# EAGLE library part PLD_ATF16V8B (library 07-Retrocomputing)
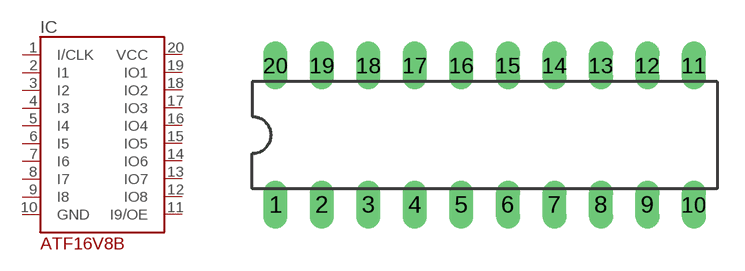
[diagram p5: symbol with the pads of DIL20; footprint DIL20]

Designator prefix IC

## PLD_ATF16V8B  [DIL20]
1  I/CLK
2  I1
3  I2
4  I3
5  I4
6  I5
7  I6
8  I7
9  I8
10  GND
11  I9/OE
12  IO8
13  IO7
14  IO6
15  IO5
16  IO4
17  IO3
18  IO2
19  IO1
20  VCC

## Footprint DIL20 (pad centres in mm)
Dual In Line Package
drill 0.813 long: 1 -11.43,-3.81; 2 -8.89,-3.81; 3 -6.35,-3.81; 4 -3.81,-3.81; 5 -1.27,-3.81; 6 1.27,-3.81; 7 3.81,-3.81; 8 6.35,-3.81; 9 8.89,-3.81; 10 11.43,-3.81; 11 11.43,3.81; 12 8.89,3.81; 13 6.35,3.81; 14 3.81,3.81; 15 1.27,3.81; 16 -1.27,3.81; 17 -3.81,3.81; 18 -6.35,3.81; 19 -8.89,3.81; 20 -11.43,3.81